# EAGLE library part TC1130 (library infineon-tricore)
32-Bit Industrial &Communication Controller Source: http://www.infineon.com .. TC1130_DS_v031.pdf
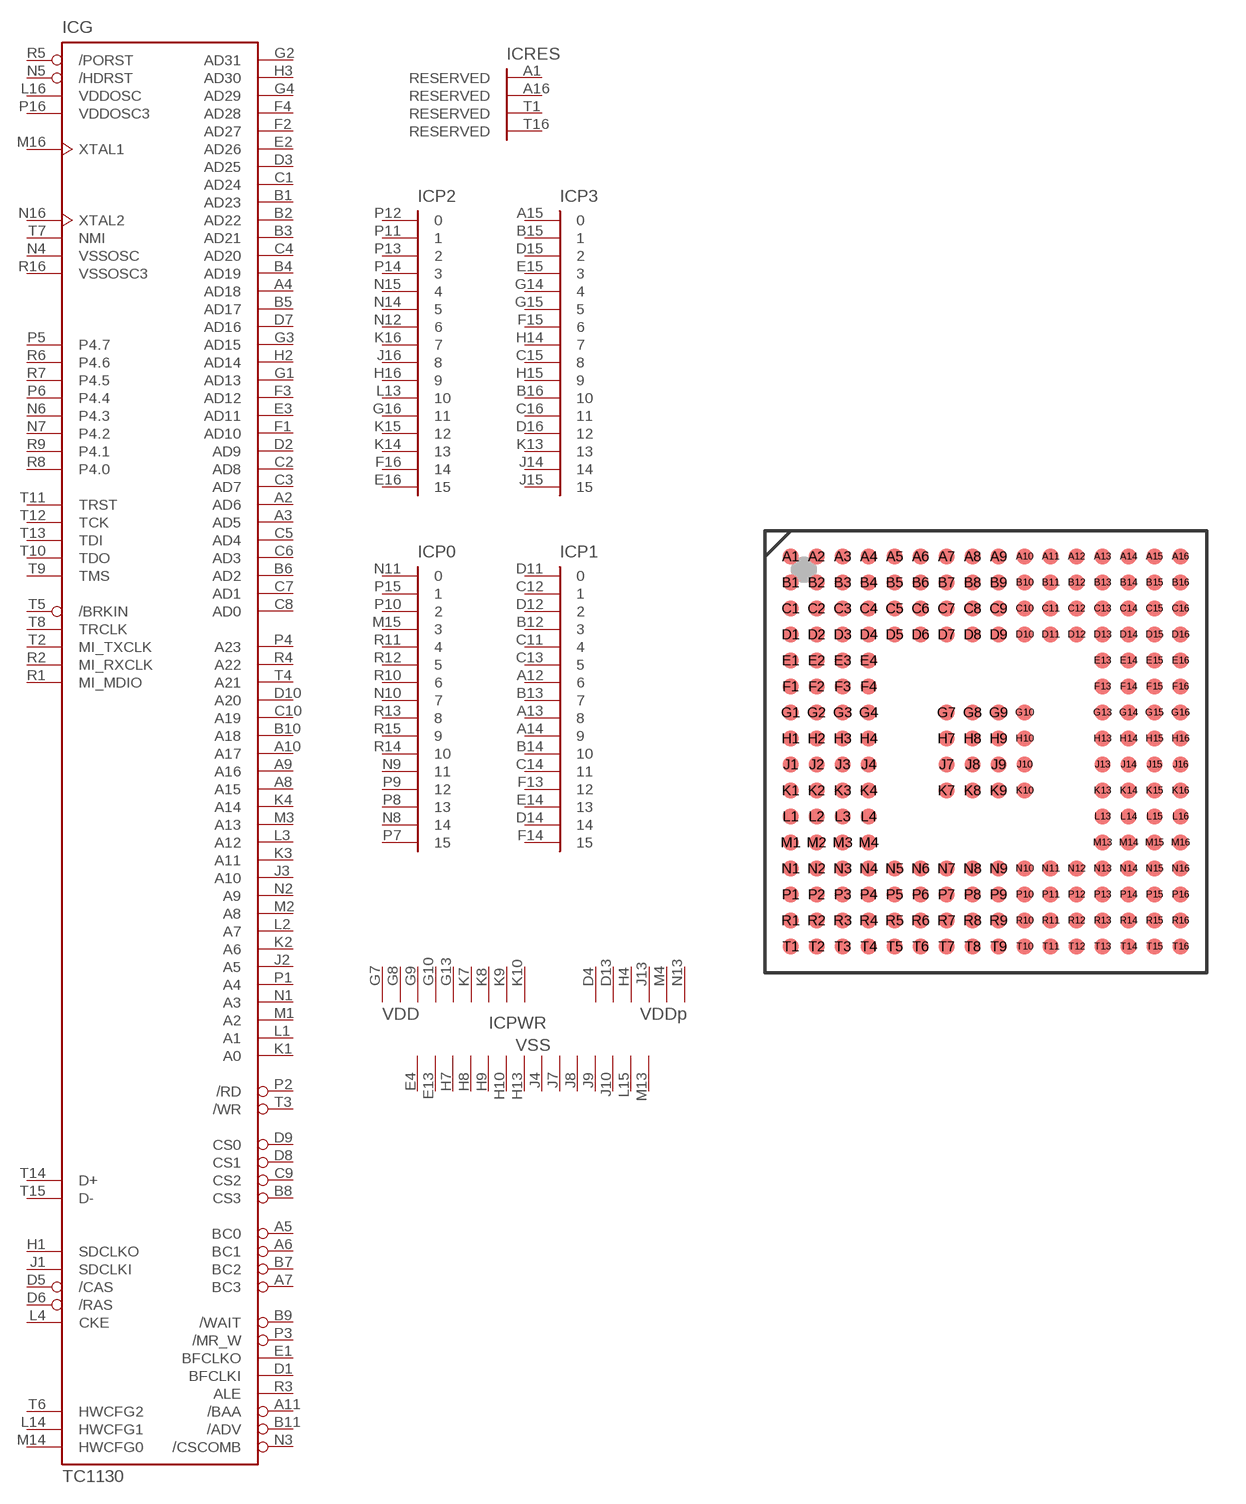
[diagram p5: symbol with the pads of P-LBGA-208-2; footprint P-LBGA-208-2]

Designator prefix IC; gates G=TC1130 PWR=PWR_TC1130 P0=PORT16 P1=PORT16 P2=PORT16 P3=PORT16 RES=NC4

## TC1130 (OC_FARNELL: unknown; OC_NEWARK: unknown)  [P-LBGA-208-2]
A1  RES:RESERVED  nc
A2  G:AD6
A3  G:AD5
A4  G:AD18
A5  G:BC0
A6  G:BC1
A7  G:BC3
A8  G:A15
A9  G:A16
A10  G:A17
A11  G:/BAA
A12  P1:6  in
A13  P1:8  in
A14  P1:9  in
A15  P3:0  in
A16  RES:RESERVED  nc
B1  G:AD23
B2  G:AD22
B3  G:AD21
B4  G:AD19
B5  G:AD17
B6  G:AD2
B7  G:BC2
B8  G:CS3
B9  G:/WAIT
B10  G:A18
B11  G:/ADV
B12  P1:3  in
B13  P1:7  in
B14  P1:10  in
B15  P3:1  in
B16  P3:10  in
C1  G:AD24
C2  G:AD8
C3  G:AD7
C4  G:AD20
C5  G:AD4
C6  G:AD3
C7  G:AD1
C8  G:AD0
C9  G:CS2
C10  G:A19
C11  P1:4  in
C12  P1:1  in
C13  P1:5  in
C14  P1:11  in
C15  P3:8  in
C16  P3:11  in
D1  G:BFCLKI
D2  G:AD9
D3  G:AD25
D4  PWR:VDDP  pwr
D5  G:/CAS
D6  G:/RAS
D7  G:AD16
D8  G:CS1
D9  G:CS0
D10  G:A20
D11  P1:0  in
D12  P1:2  in
D13  PWR:VDDP  pwr
D14  P1:14  in
D15  P3:2  in
D16  P3:12  in
E1  G:BFCLKO
E2  G:AD26
E3  G:AD11
E4  PWR:VSS  pwr
E13  PWR:VSS  pwr
E14  P1:13  in
E15  P3:3  in
E16  P2:15  in
F1  G:AD10
F2  G:AD27
F3  G:AD12
F4  G:AD28
F13  P1:12  in
F14  P1:15  in
F15  P3:6  in
F16  P2:14  in
G1  G:AD13
G2  G:AD31
G3  G:AD15
G4  G:AD29
G7  PWR:VDD  pwr
G8  PWR:VDD  pwr
G9  PWR:VDD  pwr
G10  PWR:VDD  pwr
G13  PWR:VDD  pwr
G14  P3:4  in
G15  P3:5  in
G16  P2:11  in
H1  G:SDCLKO
H2  G:AD14
H3  G:AD30
H4  PWR:VDDP  pwr
H7  PWR:VSS  pwr
H8  PWR:VSS  pwr
H9  PWR:VSS  pwr
H10  PWR:VSS  pwr
H13  PWR:VSS  pwr
H14  P3:7  in
H15  P3:9  in
H16  P2:9  in
J1  G:SDCLKI
J2  G:A5
J3  G:A10
J4  PWR:VSS  pwr
J7  PWR:VSS  pwr
J8  PWR:VSS  pwr
J9  PWR:VSS  pwr
J10  PWR:VSS  pwr
J13  PWR:VDDP  pwr
J14  P3:14  in
J15  P3:15  in
J16  P2:8  in
K1  G:A0
K2  G:A6
K3  G:A11
K4  G:A14
K7  PWR:VDD  pwr
K8  PWR:VDD  pwr
K9  PWR:VDD  pwr
K10  PWR:VDD  pwr
K13  P3:13  in
K14  P2:13  in
K15  P2:12  in
K16  P2:7  in
L1  G:A1
L2  G:A7
L3  G:A12
L4  G:CKE
L13  P2:10  in
L14  G:HWCFG1
L15  PWR:VSS  pwr
L16  G:VDDOSC
M1  G:A2
M2  G:A8
M3  G:A13
M4  PWR:VDDP  pwr
M13  PWR:VSS  pwr
M14  G:HWCFG0
M15  P0:3  in
M16  G:XTAL1
N1  G:A3
N2  G:A9
N3  G:/CSCOMB
N4  G:VSSOSC
N5  G:/HDRST
N6  G:P4.3
N7  G:P4.2
N8  P0:14  in
N9  P0:11  in
N10  P0:7  in
N11  P0:0  in
N12  P2:6  in
N13  PWR:VDDP  pwr
N14  P2:5  in
N15  P2:4  in
N16  G:XTAL2
P1  G:A4
P2  G:/RD
P3  G:/MR_W
P4  G:A23
P5  G:P4.7
P6  G:P4.4
P7  P0:15  in
P8  P0:13  in
P9  P0:12  in
P10  P0:2  in
P11  P2:1  in
P12  P2:0  in
P13  P2:2  in
P14  P2:3  in
P15  P0:1  in
P16  G:VDDOSC3
R1  G:MI_MDIO
R2  G:MI_RXCLK
R3  G:ALE
R4  G:A22
R5  G:/PORST
R6  G:P4.6
R7  G:P4.5
R8  G:P4.0
R9  G:P4.1
R10  P0:6  in
R11  P0:4  in
R12  P0:5  in
R13  P0:8  in
R14  P0:10  in
R15  P0:9  in
R16  G:VSSOSC3
T1  RES:RESERVED  nc
T2  G:MI_TXCLK
T3  G:/WR
T4  G:A21
T5  G:/BRKIN
T6  G:HWCFG2
T7  G:NMI
T8  G:TRCLK
T9  G:TMS
T10  G:TDO
T11  G:TRST
T12  G:TCK
T13  G:TDI
T14  G:D+
T15  G:D-
T16  RES:RESERVED  nc

## Footprint P-LBGA-208-2 (pad centres in mm)
P-LBGA-208-2 Low Profile Plastic Ball Grid Array Package Source: http://www.infineon.com .. TC1130_DS_v031.pdf
smd 0.6 x 0.6: A1 -7.5,7.5; A2 -6.5,7.5; A3 -5.5,7.5; A4 -4.5,7.5; A5 -3.5,7.5; A6 -2.5,7.5; A7 -1.5,7.5; A8 -0.5,7.5; A9 0.5,7.5; A10 1.5,7.5; A11 2.5,7.5; A12 3.5,7.5; A13 4.5,7.5; A14 5.5,7.5; A15 6.5,7.5; A16 7.5,7.5; B1 -7.5,6.5; B2 -6.5,6.5; B3 -5.5,6.5; B4 -4.5,6.5; B5 -3.5,6.5; B6 -2.5,6.5; B7 -1.5,6.5; B8 -0.5,6.5; B9 0.5,6.5; B10 1.5,6.5; B11 2.5,6.5; B12 3.5,6.5; B13 4.5,6.5; B14 5.5,6.5; B15 6.5,6.5; B16 7.5,6.5; C1 -7.5,5.5; C2 -6.5,5.5; C3 -5.5,5.5; C4 -4.5,5.5; C5 -3.5,5.5; C6 -2.5,5.5; C7 -1.5,5.5; C8 -0.5,5.5; C9 0.5,5.5; C10 1.5,5.5; C11 2.5,5.5; C12 3.5,5.5; C13 4.5,5.5; C14 5.5,5.5; C15 6.5,5.5; C16 7.5,5.5; D1 -7.5,4.5; D2 -6.5,4.5; D3 -5.5,4.5; D4 -4.5,4.5; D5 -3.5,4.5; D6 -2.5,4.5; D7 -1.5,4.5; D8 -0.5,4.5; D9 0.5,4.5; D10 1.5,4.5; D11 2.5,4.5; D12 3.5,4.5; D13 4.5,4.5; D14 5.5,4.5; D15 6.5,4.5; D16 7.5,4.5; E1 -7.5,3.5; E2 -6.5,3.5; E3 -5.5,3.5; E4 -4.5,3.5; E13 4.5,3.5; E14 5.5,3.5; E15 6.5,3.5; E16 7.5,3.5; F1 -7.5,2.5; F2 -6.5,2.5; F3 -5.5,2.5; F4 -4.5,2.5; F13 4.5,2.5; F14 5.5,2.5; F15 6.5,2.5; F16 7.5,2.5; G1 -7.5,1.5; G2 -6.5,1.5; G3 -5.5,1.5; G4 -4.5,1.5; G7 -1.5,1.5; G8 -0.5,1.5; G9 0.5,1.5; G10 1.5,1.5; G13 4.5,1.5; G14 5.5,1.5; G15 6.5,1.5; G16 7.5,1.5; H1 -7.5,0.5; H2 -6.5,0.5; H3 -5.5,0.5; H4 -4.5,0.5; H7 -1.5,0.5; H8 -0.5,0.5; H9 0.5,0.5; H10 1.5,0.5; H13 4.5,0.5; H14 5.5,0.5; H15 6.5,0.5; H16 7.5,0.5; J1 -7.5,-0.5; J2 -6.5,-0.5; J3 -5.5,-0.5; J4 -4.5,-0.5; J7 -1.5,-0.5; J8 -0.5,-0.5; J9 0.5,-0.5; J10 1.5,-0.5; J13 4.5,-0.5; J14 5.5,-0.5; J15 6.5,-0.5; J16 7.5,-0.5; K1 -7.5,-1.5; K2 -6.5,-1.5; K3 -5.5,-1.5; K4 -4.5,-1.5; K7 -1.5,-1.5; K8 -0.5,-1.5; K9 0.5,-1.5; K10 1.5,-1.5; K13 4.5,-1.5; K14 5.5,-1.5; K15 6.5,-1.5; K16 7.5,-1.5; L1 -7.5,-2.5; L2 -6.5,-2.5; L3 -5.5,-2.5; L4 -4.5,-2.5; L13 4.5,-2.5; L14 5.5,-2.5; L15 6.5,-2.5; L16 7.5,-2.5; M1 -7.5,-3.5; M2 -6.5,-3.5; M3 -5.5,-3.5; M4 -4.5,-3.5; M13 4.5,-3.5; M14 5.5,-3.5; M15 6.5,-3.5; M16 7.5,-3.5; N1 -7.5,-4.5; N2 -6.5,-4.5; N3 -5.5,-4.5; N4 -4.5,-4.5; N5 -3.5,-4.5; N6 -2.5,-4.5; N7 -1.5,-4.5; N8 -0.5,-4.5; N9 0.5,-4.5; N10 1.5,-4.5; N11 2.5,-4.5; N12 3.5,-4.5; N13 4.5,-4.5; N14 5.5,-4.5; N15 6.5,-4.5; N16 7.5,-4.5; P1 -7.5,-5.5; P2 -6.5,-5.5; P3 -5.5,-5.5; P4 -4.5,-5.5; P5 -3.5,-5.5; P6 -2.5,-5.5; P7 -1.5,-5.5; P8 -0.5,-5.5; P9 0.5,-5.5; P10 1.5,-5.5; P11 2.5,-5.5; P12 3.5,-5.5; P13 4.5,-5.5; P14 5.5,-5.5; P15 6.5,-5.5; P16 7.5,-5.5; R1 -7.5,-6.5; R2 -6.5,-6.5; R3 -5.5,-6.5; R4 -4.5,-6.5; R5 -3.5,-6.5; R6 -2.5,-6.5; R7 -1.5,-6.5; R8 -0.5,-6.5; R9 0.5,-6.5; R10 1.5,-6.5; R11 2.5,-6.5; R12 3.5,-6.5; R13 4.5,-6.5; R14 5.5,-6.5; R15 6.5,-6.5; R16 7.5,-6.5; T1 -7.5,-7.5; T2 -6.5,-7.5; T3 -5.5,-7.5; T4 -4.5,-7.5; T5 -3.5,-7.5; T6 -2.5,-7.5; T7 -1.5,-7.5; T8 -0.5,-7.5; T9 0.5,-7.5; T10 1.5,-7.5; T11 2.5,-7.5; T12 3.5,-7.5; T13 4.5,-7.5; T14 5.5,-7.5; T15 6.5,-7.5; T16 7.5,-7.5